# Altium footprint library SPKR_PKLCS1212E4001-R1.PcbLib: 1 footprints
Each footprint in its own frame and in the unit in brackets; x right, y up, seen from the top. Pads: shape width x height; smd on the part's side, far side on the other; paste and mask are expansions set on the pad; w line width, h text height; cw(c..) or ccw(c..) is an arc to the next point about the centre after c.
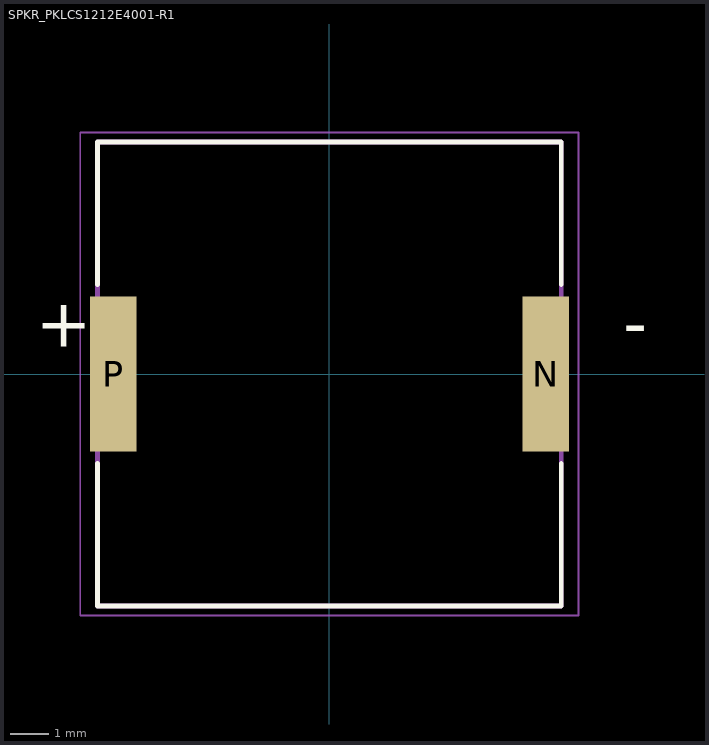
[diagram p0: the footprint, top view; thin cyan lines are the x and y axes]

## SPKR_PKLCS1212E4001-R1 [mm]
pads (2):
  rect 1.2x4 smd: N(5.6,0) P(-5.6,0)
Top Overlay:
  lines w0.127: -6,-2.32 -6,-6 6,-6 6,-2.32 ; -6,2.32 -6,6 6,6 6,2.32
  text "-" at 7.6,0.7 h1.27
  text "+" at -7.6,0.7 h1.27
Mechanical 13:
  lines w0.127: -6,-6 -6,6 6,6 6,-6 -6,-6
  text "-" at 7.6,0.7 h1.27
  text "+" at -7.6,0.7 h1.27
Mechanical 15:
  lines w0.05: -6.45,-6.25 -6.45,6.25 6.45,6.25 6.45,-6.25 -6.45,-6.25
3D body "PKLCS1212E4001-R1--3DModel-STEP-56544.STEP": height 3.01, standoff 0.01, extent -6,-6 6,6